# Altium schematic symbol library SJ-3523-SMT-TR.SchLib: 1 symbol
Pins are listed as number, name and electrical type; pins without a type are passive.

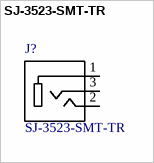
[diagram p0: symbol SJ-3523-SMT-TR]

## SJ-3523-SMT-TR
designator J?
3.5 mm, Stereo, Right Angle, Surface Mount _SMT_, Audio Jack Connector; MF: CUI Inc.; CUI_purchase_URL: https://www.cui.com/product/interconnect/connectors/audio-connectors/jacks/sj-352x-smt-series?utm_source=snapeda.com&utm_medium=referral&utm_campaign=snapedaBOM; Package: LGA-10 STMicroelectronics; SnapEDA_Link: https://www.snapeda.com/parts/SJ-3523-SMT-TR/CUI%20Inc./view-part/?ref=snap; Price: None; Availability: Unavailable; MP: SJ-3523-SMT-TR; Value: *
footprint *CUI_SJ-3523-SMT-TR
pins: 1, 2, 3